# Altium schematic symbol library Schlib.SchLib: 3 symbols
Pins are listed as number, name and electrical type; pins without a type are passive.

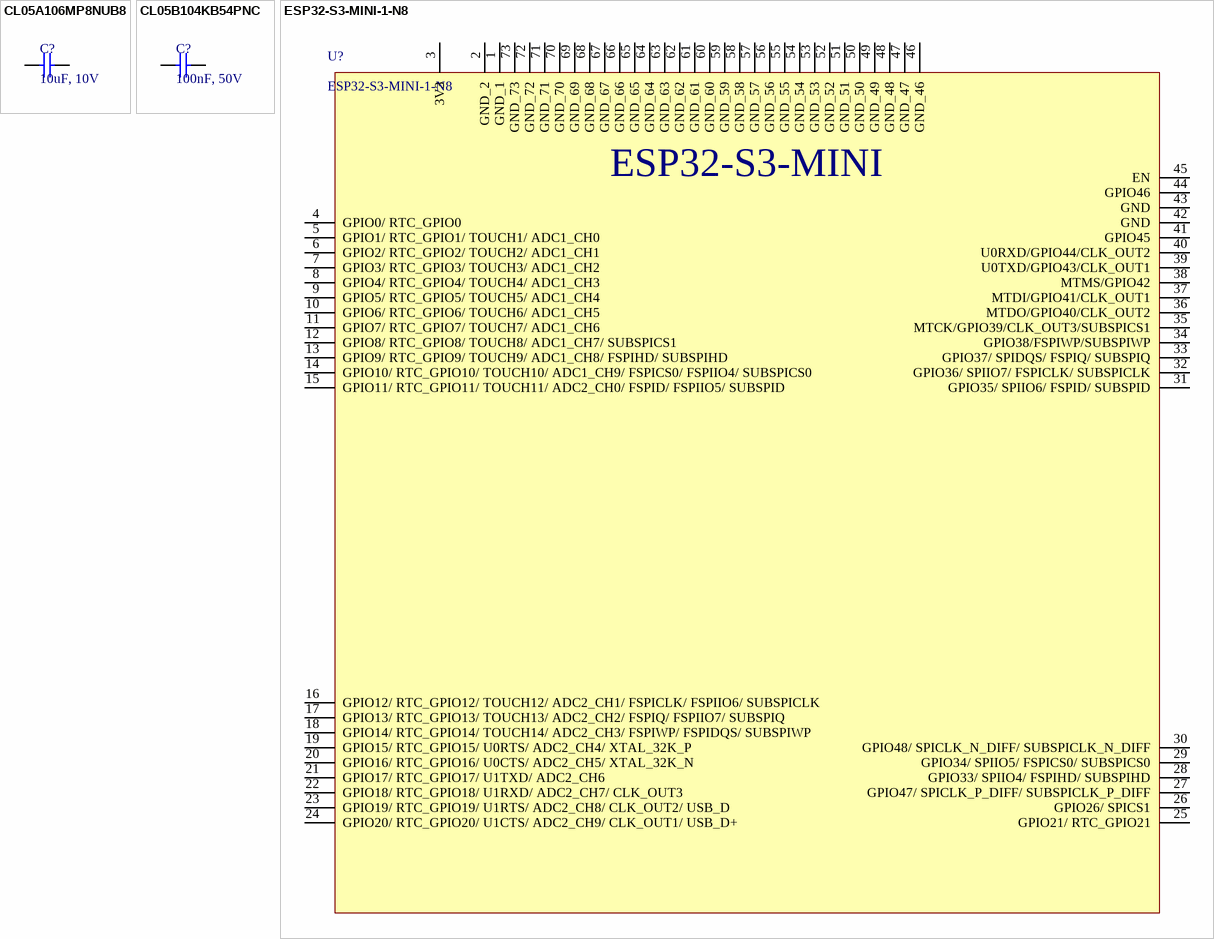
[diagram p0: symbols CL05A106MP8NUB8 to ESP32-S3-MINI-1-N8]

## CL05A106MP8NUB8
designator C?, comment 10uF, 10V
10V 10uF X5R ±20% 0402 Multilayer Ceramic Capacitors MLCC - SMD/SMT ROHS; Manufacturer: Samsung Electro-Mechanics; Manufacturer Part Number: CL05A106MP8NUB8; Supplier: LCSC; Supplier Part Number: C307415; ComponentLink1URL: https://datasheet.octopart.com:443/CL05A106MP8NUB8-Samsung-Electro-Mechanics-datasheet-136460857.pdf?src-supplier=IHS; ComponentLink1Description: https://datasheet.octopart.com:443/CL05A106MP8NUB8-Samsung-Electro-Mechanics-datasheet-136460857.pdf?src-supplier=IHS; ComponentLink2URL: https://datasheet.octopart.com:443/CL05A106MP8NUB8-Samsung-Electro-Mechanics-datasheet-181551178.pdf?src-supplier=Newark; ComponentLink2Description: https://datasheet.octopart.com:443/CL05A106MP8NUB8-Samsung-Electro-Mechanics-datasheet-181551178.pdf?src-supplier=Newark; ComponentLink3URL: https://datasheet.octopart.com:443/CL05A106MP8NUB8-Samsung-Electro-Mechanics-datasheet-136031724.pdf?src-supplier=Newark; ComponentLink3Description: https://datasheet.octopart.com:443/CL05A106MP8NUB8-Samsung-Electro-Mechanics-datasheet-136031724.pdf?src-supplier=Newark; ComponentLink4URL: https://datasheet.octopart.com:443/CL05A106MP8NUB8-Samsung-Electro-Mechanics-datasheet-141346815.pdf?src-supplier=Samsung+SCT; ComponentLink4Description: https://datasheet.octopart.com:443/CL05A106MP8NUB8-Samsung-Electro-Mechanics-datasheet-141346815.pdf?src-supplier=Samsung+SCT; ComponentLink5URL: https://datasheet.octopart.com:443/CL05A106MP8NUB8-Samsung-Electro-Mechanics-datasheet-110326781.pdf?src-supplier=Future+Electronics; ComponentLink5Description: https://datasheet.octopart.com:443/CL05A106MP8NUB8-Samsung-Electro-Mechanics-datasheet-110326781.pdf?src-supplier=Future+Electronics; ComponentLink6URL: https://datasheet.octopart.com:443/CL05A106MP8NUB8-Samsung-Electro-Mechanics-datasheet-96443587.pdf?src-supplier=Future+Electronics; ComponentLink6Description: https://datasheet.octopart.com:443/CL05A106MP8NUB8-Samsung-Electro-Mechanics-datasheet-96443587.pdf?src-supplier=Future+Electronics; ComponentLink7URL: https://datasheet.octopart.com:443/CL05A106MP8NUB8-Samsung-Electro-Mechanics-datasheet-68297032.pdf?src-supplier=Future+Electronics; ComponentLink7Description: https://datasheet.octopart.com:443/CL05A106MP8NUB8-Samsung-Electro-Mechanics-datasheet-68297032.pdf?src-supplier=Future+Electronics; ComponentLink8URL: https://datasheet.octopart.com:443/CL05A106MP8NUB8-Samsung-Electro-Mechanics-datasheet-86032222.pdf?src-supplier=Future+Electronics; ComponentLink8Description: https://datasheet.octopart.com:443/CL05A106MP8NUB8-Samsung-Electro-Mechanics-datasheet-86032222.pdf?src-supplier=Future+Electronics
pins: 1, 2

## CL05B104KB54PNC
designator C?, comment 100nF, 50V
50V 100nF X7R ±10% 0402 Multilayer Ceramic Capacitors MLCC - SMD/SMT ROHS; Manufacturer: Samsung Electro-Mechanics; Manufacturer Part Number: CL05B104KB54PNC; Supplier: LCSC; Supplier Part Number: C307331; ComponentLink1URL: https://datasheet.octopart.com:443/CL05B104KB54PNC-Samsung-Electro-Mechanics-datasheet-182018727.pdf?src-supplier=IHS; ComponentLink1Description: https://datasheet.octopart.com:443/CL05B104KB54PNC-Samsung-Electro-Mechanics-datasheet-182018727.pdf?src-supplier=IHS; ComponentLink2URL: https://datasheet.octopart.com:443/CL05B104KB54PNC-Samsung-Electro-Mechanics-datasheet-138685816.pdf?src-supplier=Samsung+SCT; ComponentLink2Description: https://datasheet.octopart.com:443/CL05B104KB54PNC-Samsung-Electro-Mechanics-datasheet-138685816.pdf?src-supplier=Samsung+SCT; ComponentLink3URL: https://datasheet.octopart.com:443/CL05B104KB54PNC-Samsung-datasheet-8326407.pdf?src-supplier=TME; ComponentLink3Description: https://datasheet.octopart.com:443/CL05B104KB54PNC-Samsung-datasheet-8326407.pdf?src-supplier=TME
pins: 1, 2

## ESP32-S3-MINI-1-N8
designator U?
SMD module, ESP32-S3FN8, 8 MB SPI flash, PCB antenna; Manufacturer: Espressif Systems; Supplier: LCSC; Supplier Part Number: C2913206; Manufacturer Part Number: ESP32-S3-MINI-1-N8; ComponentLink1URL: https://datasheet.octopart.com:443/ESP32-S3-MINI-1-N8-Espressif-Systems-datasheet-188867343.pdf?src-supplier=TME; ComponentLink1Description: https://datasheet.octopart.com:443/ESP32-S3-MINI-1-N8-Espressif-Systems-datasheet-188867343.pdf?src-supplier=TME; ComponentLink2URL: https://datasheet.octopart.com:443/ESP32-S3-MINI-1-N8-Espressif-Systems-datasheet-165560562.pdf?src-supplier=TME; ComponentLink2Description: https://datasheet.octopart.com:443/ESP32-S3-MINI-1-N8-Espressif-Systems-datasheet-165560562.pdf?src-supplier=TME; ComponentLink3URL: https://datasheet.octopart.com:443/ESP32-S3-MINI-1-N8-Espressif-Systems-datasheet-165560559.pdf?src-supplier=TME; ComponentLink3Description: https://datasheet.octopart.com:443/ESP32-S3-MINI-1-N8-Espressif-Systems-datasheet-165560559.pdf?src-supplier=TME
pins: 1 GND_1, 2 GND_2, 3 3V3, 4 GPIO0/ RTC_GPIO0, 5 GPIO1/ RTC_GPIO1/ TOUCH1/ ADC1_CH0, 6 GPIO2/ RTC_GPIO2/ TOUCH2/ ADC1_CH1, 7 GPIO3/ RTC_GPIO3/ TOUCH3/ ADC1_CH2, 8 GPIO4/ RTC_GPIO4/ TOUCH4/ ADC1_CH3, 9 GPIO5/ RTC_GPIO5/ TOUCH5/ ADC1_CH4, 10 GPIO6/ RTC_GPIO6/ TOUCH6/ ADC1_CH5, 11 GPIO7/ RTC_GPIO7/ TOUCH7/ ADC1_CH6, 12 GPIO8/ RTC_GPIO8/ TOUCH8/ ADC1_CH7/ SUBSPICS1, 13 GPIO9/ RTC_GPIO9/ TOUCH9/ ADC1_CH8/ FSPIHD/ SUBSPIHD, 14 GPIO10/ RTC_GPIO10/ TOUCH10/ ADC1_CH9/ FSPICS0/ FSPIIO4/ SUBSPICS0, 15 GPIO11/ RTC_GPIO11/ TOUCH11/ ADC2_CH0/ FSPID/ FSPIIO5/ SUBSPID, 16 GPIO12/ RTC_GPIO12/ TOUCH12/ ADC2_CH1/ FSPICLK/ FSPIIO6/ SUBSPICLK, 17 GPIO13/ RTC_GPIO13/ TOUCH13/ ADC2_CH2/ FSPIQ/ FSPIIO7/ SUBSPIQ, 18 GPIO14/ RTC_GPIO14/ TOUCH14/ ADC2_CH3/ FSPIWP/ FSPIDQS/ SUBSPIWP, 19 GPIO15/ RTC_GPIO15/ U0RTS/ ADC2_CH4/ XTAL_32K_P, 20 GPIO16/ RTC_GPIO16/ U0CTS/ ADC2_CH5/ XTAL_32K_N, 21 GPIO17/ RTC_GPIO17/ U1TXD/ ADC2_CH6, 22 GPIO18/ RTC_GPIO18/ U1RXD/ ADC2_CH7/ CLK_OUT3, 23 GPIO19/ RTC_GPIO19/ U1RTS/ ADC2_CH8/ CLK_OUT2/ USB_D, 24 GPIO20/ RTC_GPIO20/ U1CTS/ ADC2_CH9/ CLK_OUT1/ USB_D+, 25 GPIO21/ RTC_GPIO21, 26 GPIO26/ SPICS1, 27 GPIO47/ SPICLK_P_DIFF/ SUBSPICLK_P_DIFF, 28 GPIO33/ SPIIO4/ FSPIHD/ SUBSPIHD, 29 GPIO34/ SPIIO5/ FSPICS0/ SUBSPICS0, 30 GPIO48/ SPICLK_N_DIFF/ SUBSPICLK_N_DIFF, 31 GPIO35/ SPIIO6/ FSPID/ SUBSPID, 32 GPIO36/ SPIIO7/ FSPICLK/ SUBSPICLK, 33 GPIO37/ SPIDQS/ FSPIQ/ SUBSPIQ, 34 GPIO38/FSPIWP/SUBSPIWP, 35 MTCK/GPIO39/CLK_OUT3/SUBSPICS1, 36 MTDO/GPIO40/CLK_OUT2, 37 MTDI/GPIO41/CLK_OUT1, 38 MTMS/GPIO42, 39 U0TXD/GPIO43/CLK_OUT1, 40 U0RXD/GPIO44/CLK_OUT2, 41 GPIO45, 42 GND, 43 GND, 44 GPIO46, 45 EN, 46 GND_46, 47 GND_47, 48 GND_48, 49 GND_49, 50 GND_50, 51 GND_51, 52 GND_52, 53 GND_53, 54 GND_54, 55 GND_55, 56 GND_56, 57 GND_57, 58 GND_58, 59 GND_59, 60 GND_60, 61 GND_61, 62 GND_62, 63 GND_63, 64 GND_64, 65 GND_65, 66 GND_66, 67 GND_67, 68 GND_68, 69 GND_69, 70 GND_70, 71 GND_71, 72 GND_72, 73 GND_73
text: ESP32-S3-MINI